# EAGLE library part MCP3204 (library uBraids_SE_Library)
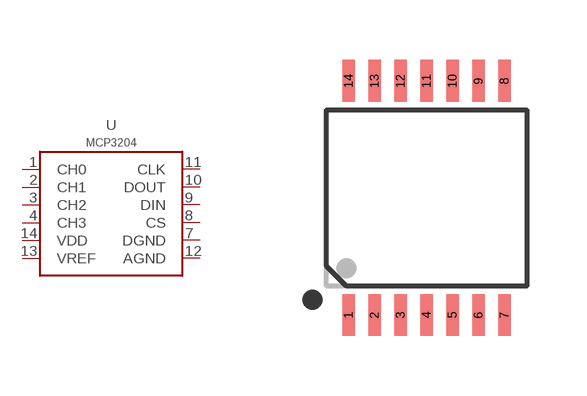
[diagram p2: symbol with the pads of TSSOP-14; footprint TSSOP-14]

Designator prefix -

## MCP3204-TSSOP-14  [TSSOP-14]
1  CH0
2  CH1
3  CH2
4  CH3
7  DGND
8  CS
9  DIN
10  DOUT
11  CLK
12  AGND
13  VREF
14  VDD

## Footprint TSSOP-14 (pad centres in mm)
smd 0.32 x 1.05: 1 -1.95,-2.925; 2 -1.3,-2.925; 3 -0.65,-2.925; 4 0,-2.925; 5 0.65,-2.925; 6 1.3,-2.925; 7 1.95,-2.925; 8 1.95,2.925; 9 1.3,2.925; 10 0.65,2.925; 11 0,2.925; 12 -0.65,2.925; 13 -1.3,2.925; 14 -1.95,2.925